# Altium schematic symbol library kmilo17pet-TI_MSP430.SchLib: 1463 symbols (part 111 of 130)
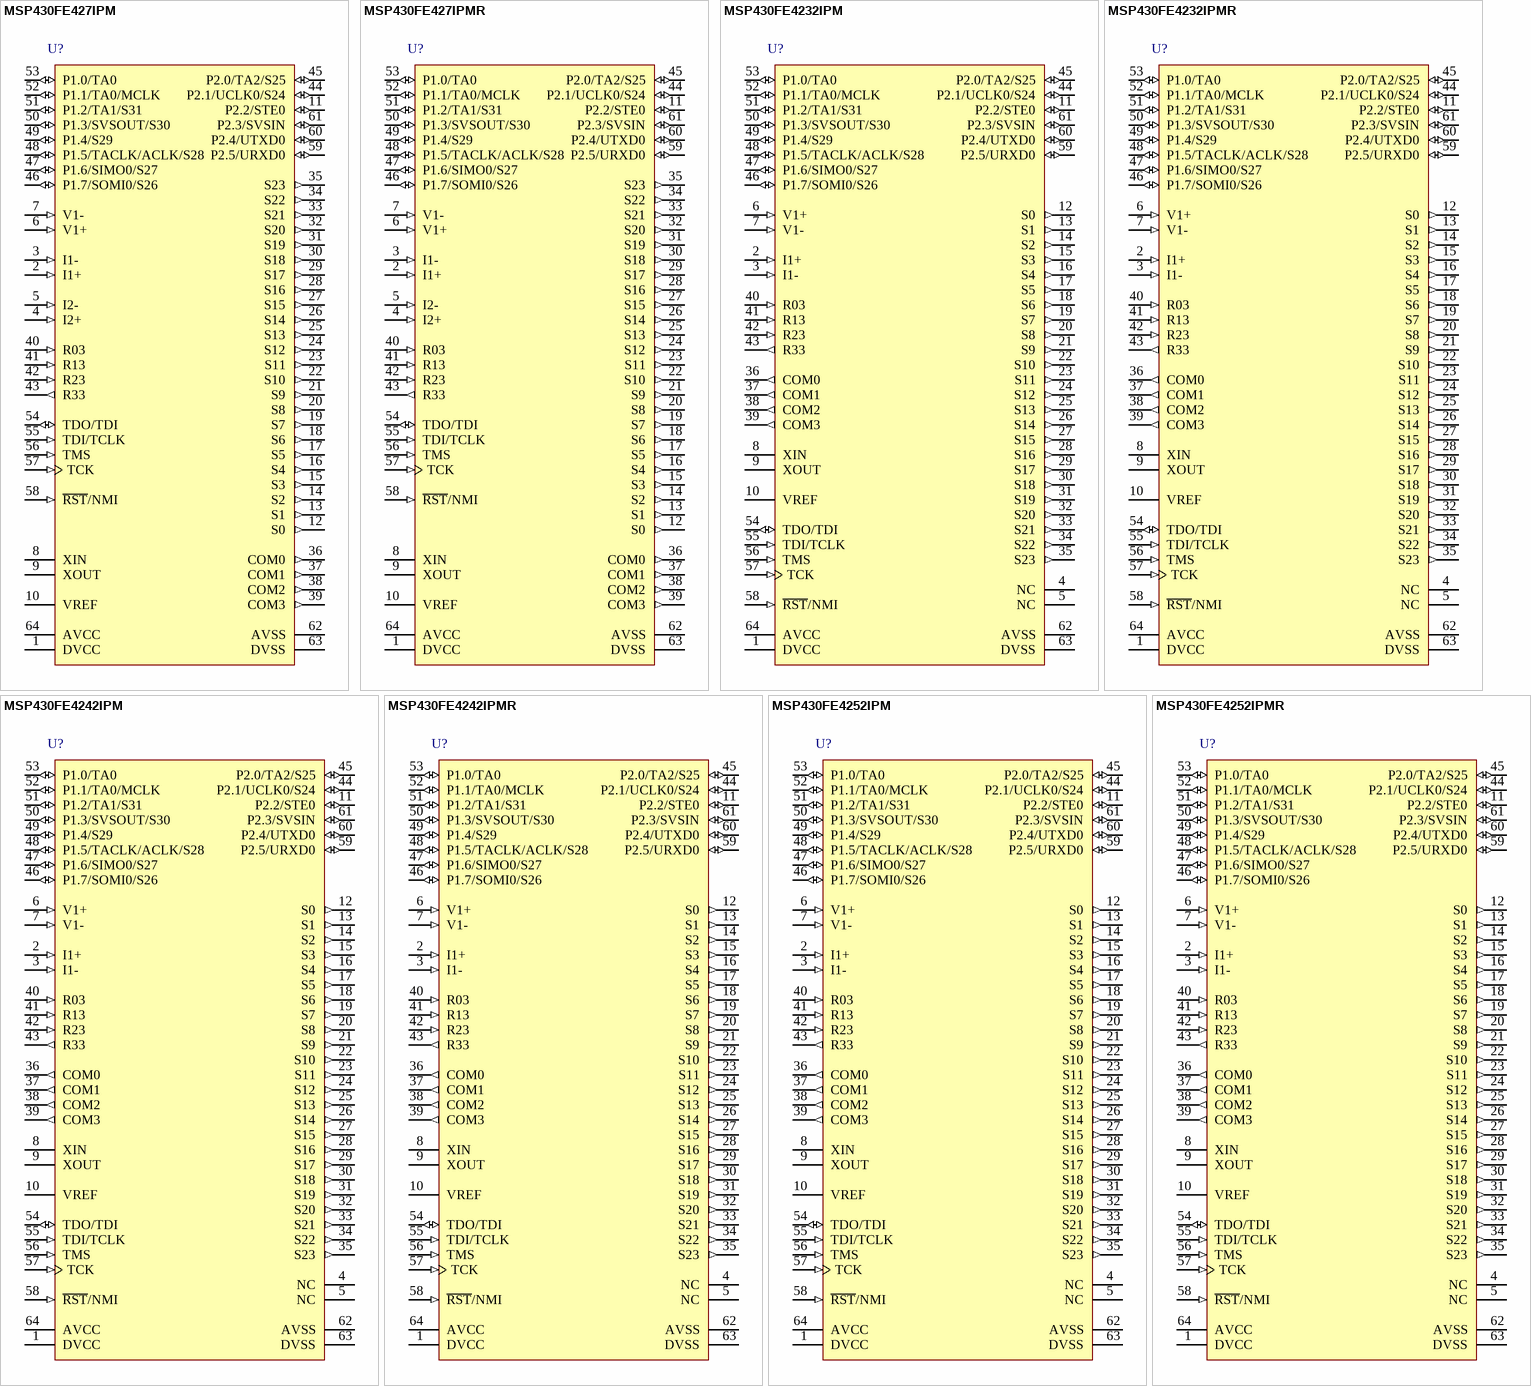
[diagram p291: symbols MSP430FE427IPM to MSP430FE4252IPMR]

## MSP430FE4242IPM
designator U?
8 MHz Mixed Signal Microcontroller with 12 KB Flash, 512 B SRAM and 14 GPIOs, -40 to 85 degC, 64-pin QFP (PM), Green (RoHS & no Sb/Br); Manufacturer: Texas Instruments; PartNumber: MSP430FE4242IPM; ADC: 16-bit Sigma Delta; Brown Out Reset: Yes; Flash(KB): 12; Frequency(MHz): 8; GPIO: 14; LCD Segments: 128; SRAM(B): 512; SubFamily: 4 Series with LCD; Timers - 16-bit: 1; DatasheetVersion: SLAS616; PackageVersion: 4040152/C; PackageReference: PM64; PackageDescription: 64-Pin Plastic Quad Flat Pack, Body 10 x 10 mm, Pitch 0.5 mm; Supplier 1: Digi-Key; Supplier Part Number 1: MSP430FE423IPMR-ND; Supplier 2: Newark; Supplier Part Number 2: 10J9439; Supplier 3: Mouser; Supplier Part Number 3: 595-430FE423IPMR; Eco-Plan: Green (RoHS & no Sb/Br); SVS: Yes; Temp Sensor: Yes; USART: 1; Mounting Technology: Surface Mount; Code_JEDEC: MS-026; ComponentLink1Description: Manufacturer URL; ComponentLink1URL: http://www.ti.com/; ComponentLink2Description: Datasheet; ComponentLink2URL: http://www.ti.com/general/docs/lit/getliterature.tsp?genericPartNumber=MSP430FE4242&fileType=pdf; ComponentLink3Description: Package Specification; ComponentLink3URL: http://www.ti.com/lit/ml/mtqf008a/mtqf008a.pdf
footprint TI-PM64_N (QFP, 64-Leads, Body 10x10mm, Pitch 0.5mm, IPC Medium Density)
pins: 1 DVCC (power) "Digital supply voltage, positive terminal.", 2 I1+ (in) "Current 1 positive analog input. Internal connection to SD16 Channel 0 A0+.", 3 I1- (in) "Current 1 negative analog input. Internal connection to SD16 Channel 0 A0-.", 4 NC "Not connected. Connection to analog ground (AVSS) recommended.", 5 NC "Not connected. Connection to analog ground (AVSS) recommended.", 6 V1+ (in) "Voltage 1 positive analog input. Internal connection to SD16 Channel 1 A0+.", 7 V1- (in) "Voltage 1 negative analog input. Internal connection to SD16 Channel 1 A0-.", 8 XIN "Input port for crystal oscillator XT1. Standard or watch crystals can be connected.", 9 XOUT "Output terminal of crystal oscillator XT1", 10 VREF "Input for an external reference voltage / internal reference voltage output (can be used as mid-voltage)", 11 P2.2/STE0 (io), 12 S0 (out) "LCD segment output 0", 13 S1 (out) "LCD segment output 1", 14 S2 (out) "LCD segment output 2", 15 S3 (out) "LCD segment output 3", 16 S4 (out) "LCD segment output 4", 17 S5 (out) "LCD segment output 5", 18 S6 (out) "LCD segment output 6", 19 S7 (out) "LCD segment output 7", 20 S8 (out) "LCD segment output 8", 21 S9 (out) "LCD segment output 9", 22 S10 (out) "LCD segment output 10", 23 S11 (out) "LCD segment output 11", 24 S12 (out) "LCD segment output 12", 25 S13 (out) "LCD segment output 13", 26 S14 (out) "LCD segment output 14", 27 S15 (out) "LCD segment output 15", 28 S16 (out) "LCD segment output 16", 29 S17 (out) "LCD segment output 17", 30 S18 (out) "LCD segment output 18", 31 S19 (out) "LCD segment output 19", 32 S20 (out) "LCD segment output 20", 33 S21 (out) "LCD segment output 21", 34 S22 (out) "LCD segment output 22", 35 S23 (out) "LCD segment output 23", 36 COM0 (out) "Common output, COM0-3 are used for LCD backplanes.", 37 COM1 (out) "Common output, COM0-3 are used for LCD backplanes.", 38 COM2 (out) "Common output, COM0-3 are used for LCD backplanes.", 39 COM3 (out) "Common output, COM0-3 are used for LCD backplanes.", 40 R03 (in) "Input port of fourth positive (lowest) analog LCD level (V5)", 41 R13 (in) "Input port of third most positive analog LCD level (V4 or V3)", 42 R23 (in) "Input port of second most positive analog LCD level (V2)", 43 R33 (out) "Output port of most positive analog LCD level (V1)", 44 P2.1/UCLK0/S24 (io), 45 P2.0/TA2/S25 (io), 46 P1.7/SOMI0/S26 (io), 47 P1.6/SIMO0/S27 (io), 48 P1.5/TACLK/ACLK/S28 (io), 49 P1.4/S29 (io), 50 P1.3/SVSOUT/S30 (io), 51 P1.2/TA1/S31 (io), 52 P1.1/TA0/MCLK (io), 53 P1.0/TA0 (io), 54 TDO/TDI (io), 55 TDI/TCLK (in), 56 TMS (in) "Test mode select. TMS is used as an input port for device programming and test.", 57 TCK (in) "Test clock. TCK is the clock input port for device programming and test.", 58 ~{RST}/NMI (in), 59 P2.5/URXD0 (io), 60 P2.4/UTXD0 (io), 61 P2.3/SVSIN (io), 62 AVSS (power) "Analog supply voltage, negative terminal. Supplies SD16, SVS, brownout, oscillator, and LCD resistive divider circuitry.", 63 DVSS (power) "Digital supply voltage, negative terminal", 64 AVCC (power) "Analog supply voltage, positive terminal. Supplies SD16, SVS, brownout, oscillator, and LCD resistive divider circuitry; must not power up prior to DVCC."

## MSP430FE4242IPMR
designator U?
8 MHz Mixed Signal Microcontroller with 12 KB Flash, 512 B SRAM and 14 GPIOs, -40 to 85 degC, 64-pin QFP (PM), Green (RoHS & no Sb/Br); Manufacturer: Texas Instruments; PartNumber: MSP430FE4242IPMR; ADC: 16-bit Sigma Delta; Brown Out Reset: Yes; Flash(KB): 12; Frequency(MHz): 8; GPIO: 14; LCD Segments: 128; SRAM(B): 512; SubFamily: 4 Series with LCD; Timers - 16-bit: 1; DatasheetVersion: SLAS616; PackageVersion: 4040152/C; PackageReference: PM64; PackageDescription: 64-Pin Plastic Quad Flat Pack, Body 10 x 10 mm, Pitch 0.5 mm; Supplier 1: Digi-Key; Supplier Part Number 1: MSP430FE4242IPM-ND; Supplier 2: Mouser; Supplier Part Number 2: 595-MSP430FE4242IPM; Eco-Plan: Green (RoHS & no Sb/Br); SVS: Yes; Temp Sensor: Yes; USART: 1; Mounting Technology: Surface Mount; Code_JEDEC: MS-026; ComponentLink1Description: Manufacturer URL; ComponentLink1URL: http://www.ti.com/; ComponentLink2Description: Datasheet; ComponentLink2URL: http://www.ti.com/general/docs/lit/getliterature.tsp?genericPartNumber=MSP430FE4242&fileType=pdf; ComponentLink3Description: Package Specification; ComponentLink3URL: http://www.ti.com/lit/ml/mtqf008a/mtqf008a.pdf
footprint TI-PM64_N (QFP, 64-Leads, Body 10x10mm, Pitch 0.5mm, IPC Medium Density)
pins: 1 DVCC (power) "Digital supply voltage, positive terminal.", 2 I1+ (in) "Current 1 positive analog input. Internal connection to SD16 Channel 0 A0+.", 3 I1- (in) "Current 1 negative analog input. Internal connection to SD16 Channel 0 A0-.", 4 NC "Not connected. Connection to analog ground (AVSS) recommended.", 5 NC "Not connected. Connection to analog ground (AVSS) recommended.", 6 V1+ (in) "Voltage 1 positive analog input. Internal connection to SD16 Channel 1 A0+.", 7 V1- (in) "Voltage 1 negative analog input. Internal connection to SD16 Channel 1 A0-.", 8 XIN "Input port for crystal oscillator XT1. Standard or watch crystals can be connected.", 9 XOUT "Output terminal of crystal oscillator XT1", 10 VREF "Input for an external reference voltage / internal reference voltage output (can be used as mid-voltage)", 11 P2.2/STE0 (io), 12 S0 (out) "LCD segment output 0", 13 S1 (out) "LCD segment output 1", 14 S2 (out) "LCD segment output 2", 15 S3 (out) "LCD segment output 3", 16 S4 (out) "LCD segment output 4", 17 S5 (out) "LCD segment output 5", 18 S6 (out) "LCD segment output 6", 19 S7 (out) "LCD segment output 7", 20 S8 (out) "LCD segment output 8", 21 S9 (out) "LCD segment output 9", 22 S10 (out) "LCD segment output 10", 23 S11 (out) "LCD segment output 11", 24 S12 (out) "LCD segment output 12", 25 S13 (out) "LCD segment output 13", 26 S14 (out) "LCD segment output 14", 27 S15 (out) "LCD segment output 15", 28 S16 (out) "LCD segment output 16", 29 S17 (out) "LCD segment output 17", 30 S18 (out) "LCD segment output 18", 31 S19 (out) "LCD segment output 19", 32 S20 (out) "LCD segment output 20", 33 S21 (out) "LCD segment output 21", 34 S22 (out) "LCD segment output 22", 35 S23 (out) "LCD segment output 23", 36 COM0 (out) "Common output, COM0-3 are used for LCD backplanes.", 37 COM1 (out) "Common output, COM0-3 are used for LCD backplanes.", 38 COM2 (out) "Common output, COM0-3 are used for LCD backplanes.", 39 COM3 (out) "Common output, COM0-3 are used for LCD backplanes.", 40 R03 (in) "Input port of fourth positive (lowest) analog LCD level (V5)", 41 R13 (in) "Input port of third most positive analog LCD level (V4 or V3)", 42 R23 (in) "Input port of second most positive analog LCD level (V2)", 43 R33 (out) "Output port of most positive analog LCD level (V1)", 44 P2.1/UCLK0/S24 (io), 45 P2.0/TA2/S25 (io), 46 P1.7/SOMI0/S26 (io), 47 P1.6/SIMO0/S27 (io), 48 P1.5/TACLK/ACLK/S28 (io), 49 P1.4/S29 (io), 50 P1.3/SVSOUT/S30 (io), 51 P1.2/TA1/S31 (io), 52 P1.1/TA0/MCLK (io), 53 P1.0/TA0 (io), 54 TDO/TDI (io), 55 TDI/TCLK (in), 56 TMS (in) "Test mode select. TMS is used as an input port for device programming and test.", 57 TCK (in) "Test clock. TCK is the clock input port for device programming and test.", 58 ~{RST}/NMI (in), 59 P2.5/URXD0 (io), 60 P2.4/UTXD0 (io), 61 P2.3/SVSIN (io), 62 AVSS (power) "Analog supply voltage, negative terminal. Supplies SD16, SVS, brownout, oscillator, and LCD resistive divider circuitry.", 63 DVSS (power) "Digital supply voltage, negative terminal", 64 AVCC (power) "Analog supply voltage, positive terminal. Supplies SD16, SVS, brownout, oscillator, and LCD resistive divider circuitry; must not power up prior to DVCC."

## MSP430FE4252IPM
designator U?
8 MHz Mixed Signal Microcontroller with 16 KB Flash, 512 B SRAM and 14 GPIOs, -40 to 85 degC, 64-pin QFP (PM), Green (RoHS & no Sb/Br); Manufacturer: Texas Instruments; PartNumber: MSP430FE4252IPM; ADC: 16-bit Sigma Delta; Brown Out Reset: Yes; Flash(KB): 16; Frequency(MHz): 8; GPIO: 14; LCD Segments: 128; SRAM(B): 512; SubFamily: 4 Series with LCD; Timers - 16-bit: 1; DatasheetVersion: SLAS616; PackageVersion: 4040152/C; PackageReference: PM64; PackageDescription: 64-Pin Plastic Quad Flat Pack, Body 10 x 10 mm, Pitch 0.5 mm; Supplier 1: Digi-Key; Supplier Part Number 1: 296-23731-2-ND; Supplier 2: Digi-Key; Supplier Part Number 2: 296-23731-1-ND; Supplier 3: Digi-Key; Supplier Part Number 3: 296-23731-6-ND; Supplier 4: Mouser; Supplier Part Number 4: 595-MSP430FE4242IPMR; Eco-Plan: Green (RoHS & no Sb/Br); SVS: Yes; Temp Sensor: Yes; USART: 1; Mounting Technology: Surface Mount; Code_JEDEC: MS-026; ComponentLink1Description: Manufacturer URL; ComponentLink1URL: http://www.ti.com/; ComponentLink2Description: Datasheet; ComponentLink2URL: http://www.ti.com/general/docs/lit/getliterature.tsp?genericPartNumber=MSP430FE4252&fileType=pdf; ComponentLink3Description: Package Specification; ComponentLink3URL: http://www.ti.com/lit/ml/mtqf008a/mtqf008a.pdf
footprint TI-PM64_N (QFP, 64-Leads, Body 10x10mm, Pitch 0.5mm, IPC Medium Density)
pins: 1 DVCC (power) "Digital supply voltage, positive terminal.", 2 I1+ (in) "Current 1 positive analog input. Internal connection to SD16 Channel 0 A0+.", 3 I1- (in) "Current 1 negative analog input. Internal connection to SD16 Channel 0 A0-.", 4 NC "Not connected. Connection to analog ground (AVSS) recommended.", 5 NC "Not connected. Connection to analog ground (AVSS) recommended.", 6 V1+ (in) "Voltage 1 positive analog input. Internal connection to SD16 Channel 1 A0+.", 7 V1- (in) "Voltage 1 negative analog input. Internal connection to SD16 Channel 1 A0-.", 8 XIN "Input port for crystal oscillator XT1. Standard or watch crystals can be connected.", 9 XOUT "Output terminal of crystal oscillator XT1", 10 VREF "Input for an external reference voltage / internal reference voltage output (can be used as mid-voltage)", 11 P2.2/STE0 (io), 12 S0 (out) "LCD segment output 0", 13 S1 (out) "LCD segment output 1", 14 S2 (out) "LCD segment output 2", 15 S3 (out) "LCD segment output 3", 16 S4 (out) "LCD segment output 4", 17 S5 (out) "LCD segment output 5", 18 S6 (out) "LCD segment output 6", 19 S7 (out) "LCD segment output 7", 20 S8 (out) "LCD segment output 8", 21 S9 (out) "LCD segment output 9", 22 S10 (out) "LCD segment output 10", 23 S11 (out) "LCD segment output 11", 24 S12 (out) "LCD segment output 12", 25 S13 (out) "LCD segment output 13", 26 S14 (out) "LCD segment output 14", 27 S15 (out) "LCD segment output 15", 28 S16 (out) "LCD segment output 16", 29 S17 (out) "LCD segment output 17", 30 S18 (out) "LCD segment output 18", 31 S19 (out) "LCD segment output 19", 32 S20 (out) "LCD segment output 20", 33 S21 (out) "LCD segment output 21", 34 S22 (out) "LCD segment output 22", 35 S23 (out) "LCD segment output 23", 36 COM0 (out) "Common output, COM0-3 are used for LCD backplanes.", 37 COM1 (out) "Common output, COM0-3 are used for LCD backplanes.", 38 COM2 (out) "Common output, COM0-3 are used for LCD backplanes.", 39 COM3 (out) "Common output, COM0-3 are used for LCD backplanes.", 40 R03 (in) "Input port of fourth positive (lowest) analog LCD level (V5)", 41 R13 (in) "Input port of third most positive analog LCD level (V4 or V3)", 42 R23 (in) "Input port of second most positive analog LCD level (V2)", 43 R33 (out) "Output port of most positive analog LCD level (V1)", 44 P2.1/UCLK0/S24 (io), 45 P2.0/TA2/S25 (io), 46 P1.7/SOMI0/S26 (io), 47 P1.6/SIMO0/S27 (io), 48 P1.5/TACLK/ACLK/S28 (io), 49 P1.4/S29 (io), 50 P1.3/SVSOUT/S30 (io), 51 P1.2/TA1/S31 (io), 52 P1.1/TA0/MCLK (io), 53 P1.0/TA0 (io), 54 TDO/TDI (io), 55 TDI/TCLK (in), 56 TMS (in) "Test mode select. TMS is used as an input port for device programming and test.", 57 TCK (in) "Test clock. TCK is the clock input port for device programming and test.", 58 ~{RST}/NMI (in), 59 P2.5/URXD0 (io), 60 P2.4/UTXD0 (io), 61 P2.3/SVSIN (io), 62 AVSS (power) "Analog supply voltage, negative terminal. Supplies SD16, SVS, brownout, oscillator, and LCD resistive divider circuitry.", 63 DVSS (power) "Digital supply voltage, negative terminal", 64 AVCC (power) "Analog supply voltage, positive terminal. Supplies SD16, SVS, brownout, oscillator, and LCD resistive divider circuitry; must not power up prior to DVCC."

## MSP430FE4252IPMR
designator U?
8 MHz Mixed Signal Microcontroller with 16 KB Flash, 512 B SRAM and 14 GPIOs, -40 to 85 degC, 64-pin QFP (PM), Green (RoHS & no Sb/Br); Manufacturer: Texas Instruments; PartNumber: MSP430FE4252IPMR; ADC: 16-bit Sigma Delta; Brown Out Reset: Yes; Flash(KB): 16; Frequency(MHz): 8; GPIO: 14; LCD Segments: 128; SRAM(B): 512; SubFamily: 4 Series with LCD; Timers - 16-bit: 1; DatasheetVersion: SLAS616; PackageVersion: 4040152/C; PackageReference: PM64; PackageDescription: 64-Pin Plastic Quad Flat Pack, Body 10 x 10 mm, Pitch 0.5 mm; Supplier 1: Digi-Key; Supplier Part Number 1: 296-32673-ND; Supplier 2: Farnell; Supplier Part Number 2: 1903453; Supplier 3: Newark; Supplier Part Number 3: 58T4970; Supplier 4: Newark; Supplier Part Number 4: 07P9591; Supplier 5: Mouser; Supplier Part Number 5: 595-MSP430FE4252IPM; Eco-Plan: Green (RoHS & no Sb/Br); SVS: Yes; Temp Sensor: Yes; USART: 1; Mounting Technology: Surface Mount; Code_JEDEC: MS-026; ComponentLink1Description: Manufacturer URL; ComponentLink1URL: http://www.ti.com/; ComponentLink2Description: Datasheet; ComponentLink2URL: http://www.ti.com/general/docs/lit/getliterature.tsp?genericPartNumber=MSP430FE4252&fileType=pdf; ComponentLink3Description: Package Specification; ComponentLink3URL: http://www.ti.com/lit/ml/mtqf008a/mtqf008a.pdf
footprint TI-PM64_N (QFP, 64-Leads, Body 10x10mm, Pitch 0.5mm, IPC Medium Density)
pins: 1 DVCC (power) "Digital supply voltage, positive terminal.", 2 I1+ (in) "Current 1 positive analog input. Internal connection to SD16 Channel 0 A0+.", 3 I1- (in) "Current 1 negative analog input. Internal connection to SD16 Channel 0 A0-.", 4 NC "Not connected. Connection to analog ground (AVSS) recommended.", 5 NC "Not connected. Connection to analog ground (AVSS) recommended.", 6 V1+ (in) "Voltage 1 positive analog input. Internal connection to SD16 Channel 1 A0+.", 7 V1- (in) "Voltage 1 negative analog input. Internal connection to SD16 Channel 1 A0-.", 8 XIN "Input port for crystal oscillator XT1. Standard or watch crystals can be connected.", 9 XOUT "Output terminal of crystal oscillator XT1", 10 VREF "Input for an external reference voltage / internal reference voltage output (can be used as mid-voltage)", 11 P2.2/STE0 (io), 12 S0 (out) "LCD segment output 0", 13 S1 (out) "LCD segment output 1", 14 S2 (out) "LCD segment output 2", 15 S3 (out) "LCD segment output 3", 16 S4 (out) "LCD segment output 4", 17 S5 (out) "LCD segment output 5", 18 S6 (out) "LCD segment output 6", 19 S7 (out) "LCD segment output 7", 20 S8 (out) "LCD segment output 8", 21 S9 (out) "LCD segment output 9", 22 S10 (out) "LCD segment output 10", 23 S11 (out) "LCD segment output 11", 24 S12 (out) "LCD segment output 12", 25 S13 (out) "LCD segment output 13", 26 S14 (out) "LCD segment output 14", 27 S15 (out) "LCD segment output 15", 28 S16 (out) "LCD segment output 16", 29 S17 (out) "LCD segment output 17", 30 S18 (out) "LCD segment output 18", 31 S19 (out) "LCD segment output 19", 32 S20 (out) "LCD segment output 20", 33 S21 (out) "LCD segment output 21", 34 S22 (out) "LCD segment output 22", 35 S23 (out) "LCD segment output 23", 36 COM0 (out) "Common output, COM0-3 are used for LCD backplanes.", 37 COM1 (out) "Common output, COM0-3 are used for LCD backplanes.", 38 COM2 (out) "Common output, COM0-3 are used for LCD backplanes.", 39 COM3 (out) "Common output, COM0-3 are used for LCD backplanes.", 40 R03 (in) "Input port of fourth positive (lowest) analog LCD level (V5)", 41 R13 (in) "Input port of third most positive analog LCD level (V4 or V3)", 42 R23 (in) "Input port of second most positive analog LCD level (V2)", 43 R33 (out) "Output port of most positive analog LCD level (V1)", 44 P2.1/UCLK0/S24 (io), 45 P2.0/TA2/S25 (io), 46 P1.7/SOMI0/S26 (io), 47 P1.6/SIMO0/S27 (io), 48 P1.5/TACLK/ACLK/S28 (io), 49 P1.4/S29 (io), 50 P1.3/SVSOUT/S30 (io), 51 P1.2/TA1/S31 (io), 52 P1.1/TA0/MCLK (io), 53 P1.0/TA0 (io), 54 TDO/TDI (io), 55 TDI/TCLK (in), 56 TMS (in) "Test mode select. TMS is used as an input port for device programming and test.", 57 TCK (in) "Test clock. TCK is the clock input port for device programming and test.", 58 ~{RST}/NMI (in), 59 P2.5/URXD0 (io), 60 P2.4/UTXD0 (io), 61 P2.3/SVSIN (io), 62 AVSS (power) "Analog supply voltage, negative terminal. Supplies SD16, SVS, brownout, oscillator, and LCD resistive divider circuitry.", 63 DVSS (power) "Digital supply voltage, negative terminal", 64 AVCC (power) "Analog supply voltage, positive terminal. Supplies SD16, SVS, brownout, oscillator, and LCD resistive divider circuitry; must not power up prior to DVCC."

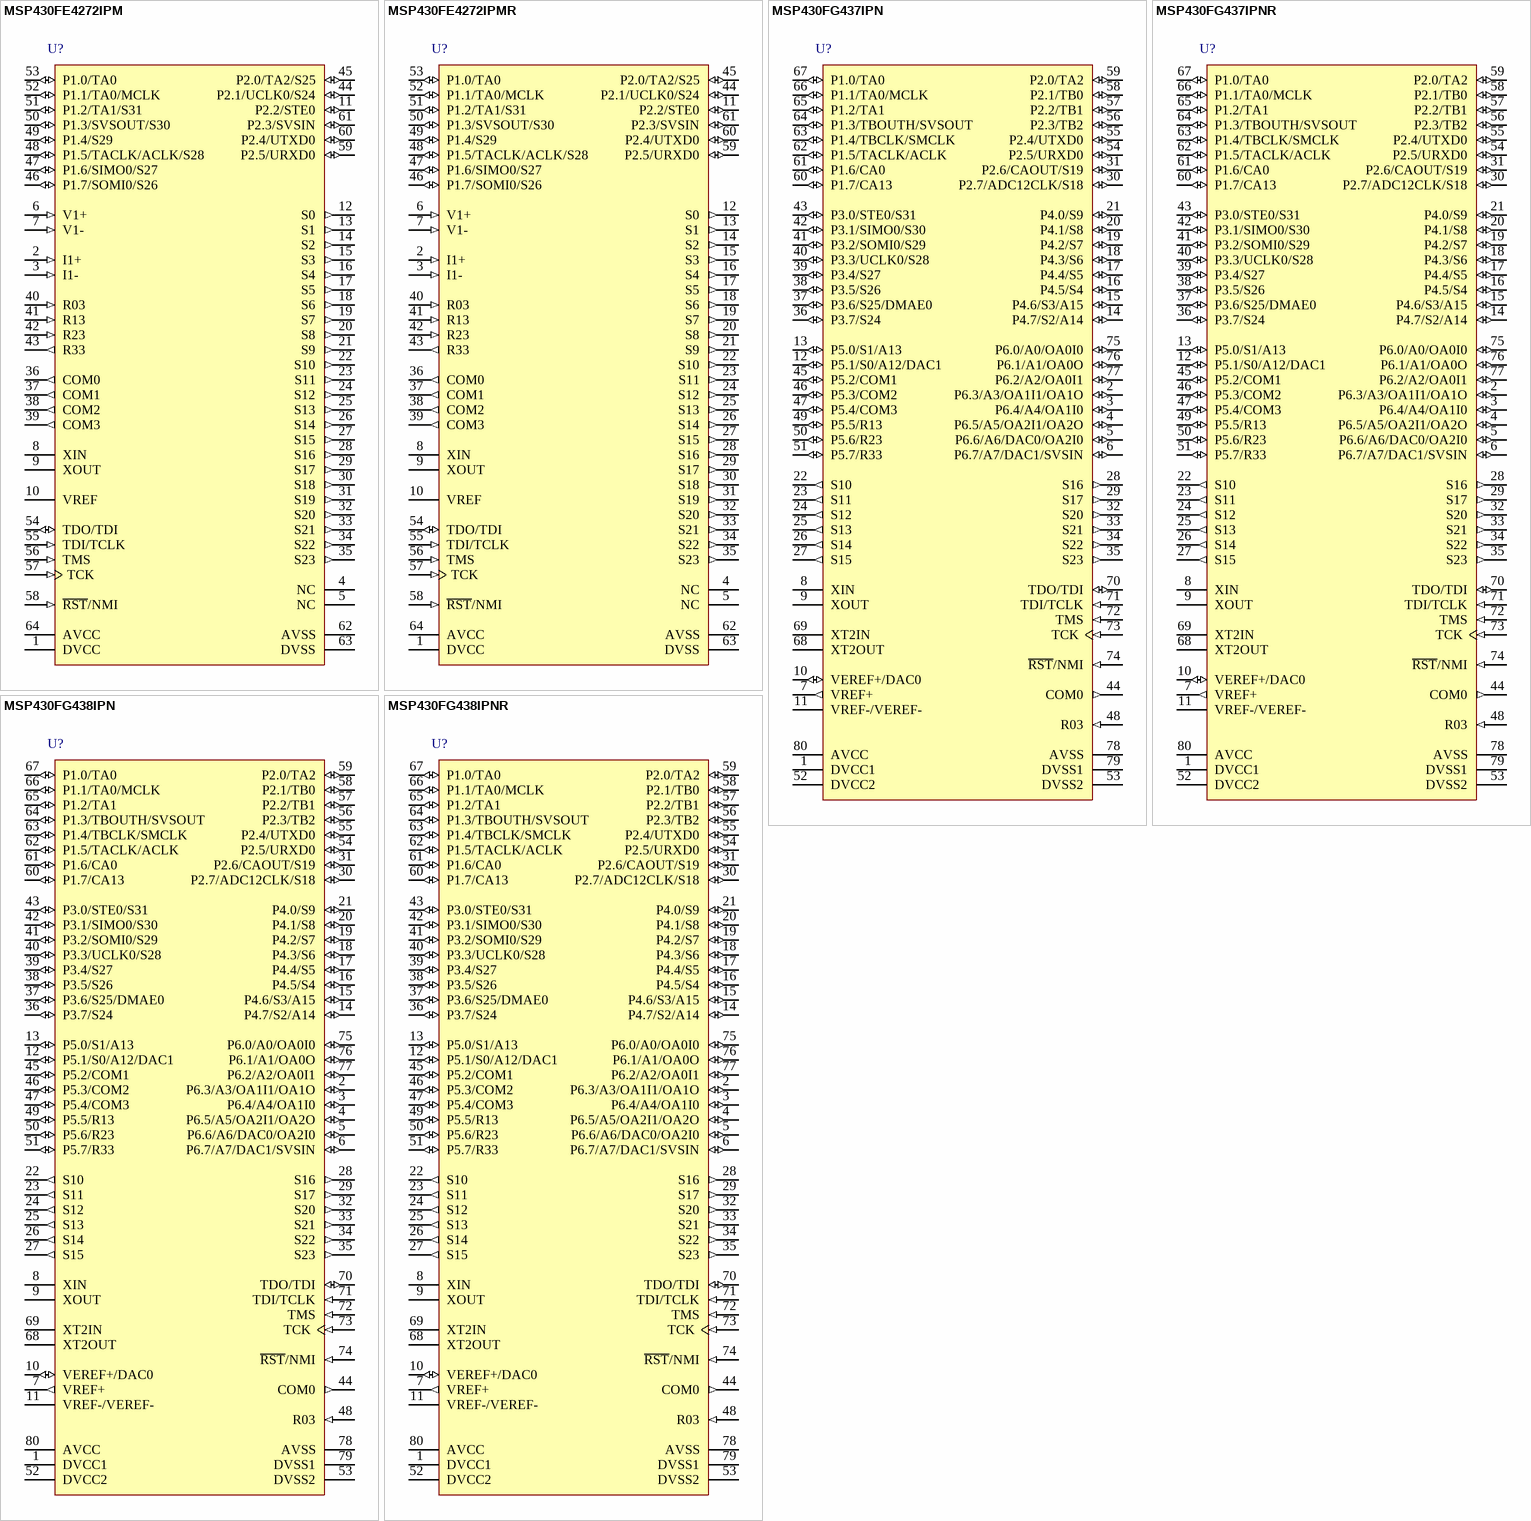
[diagram p186: symbols MSP430FE4272IPM to MSP430FG438IPNR]

## MSP430FE4272IPM
designator U?
8 MHz Mixed Signal Microcontroller with 32 KB Flash, 1024 B SRAM and 14 GPIOs, -40 to 85 degC, 64-pin QFP (PM), Green (RoHS & no Sb/Br); Manufacturer: Texas Instruments; PartNumber: MSP430FE4272IPM; ADC: 16-bit Sigma Delta; Brown Out Reset: Yes; Flash(KB): 32; Frequency(MHz): 8; GPIO: 14; LCD Segments: 128; SRAM(B): 1024; SubFamily: 4 Series with LCD; Timers - 16-bit: 1; DatasheetVersion: SLAS616; PackageVersion: 4040152/C; PackageReference: PM64; PackageDescription: 64-Pin Plastic Quad Flat Pack, Body 10 x 10 mm, Pitch 0.5 mm; Supplier 1: Digi-Key; Supplier Part Number 1: 296-26235-2-ND; Supplier 2: Digi-Key; Supplier Part Number 2: 296-26235-1-ND; Supplier 3: Digi-Key; Supplier Part Number 3: 296-26235-6-ND; Supplier 4: Newark; Supplier Part Number 4: 10J9441; Supplier 5: Mouser; Supplier Part Number 5: 595-430FE425IPMR; Eco-Plan: Green (RoHS & no Sb/Br); SVS: Yes; Temp Sensor: Yes; USART: 1; Mounting Technology: Surface Mount; Code_JEDEC: MS-026; ComponentLink1Description: Manufacturer URL; ComponentLink1URL: http://www.ti.com/; ComponentLink2Description: Datasheet; ComponentLink2URL: http://www.ti.com/general/docs/lit/getliterature.tsp?genericPartNumber=MSP430FE4272&fileType=pdf; ComponentLink3Description: Package Specification; ComponentLink3URL: http://www.ti.com/lit/ml/mtqf008a/mtqf008a.pdf
footprint TI-PM64_N (QFP, 64-Leads, Body 10x10mm, Pitch 0.5mm, IPC Medium Density)
pins: 1 DVCC (power) "Digital supply voltage, positive terminal.", 2 I1+ (in) "Current 1 positive analog input. Internal connection to SD16 Channel 0 A0+.", 3 I1- (in) "Current 1 negative analog input. Internal connection to SD16 Channel 0 A0-.", 4 NC "Not connected. Connection to analog ground (AVSS) recommended.", 5 NC "Not connected. Connection to analog ground (AVSS) recommended.", 6 V1+ (in) "Voltage 1 positive analog input. Internal connection to SD16 Channel 1 A0+.", 7 V1- (in) "Voltage 1 negative analog input. Internal connection to SD16 Channel 1 A0-.", 8 XIN "Input port for crystal oscillator XT1. Standard or watch crystals can be connected.", 9 XOUT "Output terminal of crystal oscillator XT1", 10 VREF "Input for an external reference voltage / internal reference voltage output (can be used as mid-voltage)", 11 P2.2/STE0 (io), 12 S0 (out) "LCD segment output 0", 13 S1 (out) "LCD segment output 1", 14 S2 (out) "LCD segment output 2", 15 S3 (out) "LCD segment output 3", 16 S4 (out) "LCD segment output 4", 17 S5 (out) "LCD segment output 5", 18 S6 (out) "LCD segment output 6", 19 S7 (out) "LCD segment output 7", 20 S8 (out) "LCD segment output 8", 21 S9 (out) "LCD segment output 9", 22 S10 (out) "LCD segment output 10", 23 S11 (out) "LCD segment output 11", 24 S12 (out) "LCD segment output 12", 25 S13 (out) "LCD segment output 13", 26 S14 (out) "LCD segment output 14", 27 S15 (out) "LCD segment output 15", 28 S16 (out) "LCD segment output 16", 29 S17 (out) "LCD segment output 17", 30 S18 (out) "LCD segment output 18", 31 S19 (out) "LCD segment output 19", 32 S20 (out) "LCD segment output 20", 33 S21 (out) "LCD segment output 21", 34 S22 (out) "LCD segment output 22", 35 S23 (out) "LCD segment output 23", 36 COM0 (out) "Common output, COM0-3 are used for LCD backplanes.", 37 COM1 (out) "Common output, COM0-3 are used for LCD backplanes.", 38 COM2 (out) "Common output, COM0-3 are used for LCD backplanes.", 39 COM3 (out) "Common output, COM0-3 are used for LCD backplanes.", 40 R03 (in) "Input port of fourth positive (lowest) analog LCD level (V5)", 41 R13 (in) "Input port of third most positive analog LCD level (V4 or V3)", 42 R23 (in) "Input port of second most positive analog LCD level (V2)", 43 R33 (out) "Output port of most positive analog LCD level (V1)", 44 P2.1/UCLK0/S24 (io), 45 P2.0/TA2/S25 (io), 46 P1.7/SOMI0/S26 (io), 47 P1.6/SIMO0/S27 (io), 48 P1.5/TACLK/ACLK/S28 (io), 49 P1.4/S29 (io), 50 P1.3/SVSOUT/S30 (io), 51 P1.2/TA1/S31 (io), 52 P1.1/TA0/MCLK (io), 53 P1.0/TA0 (io), 54 TDO/TDI (io), 55 TDI/TCLK (in), 56 TMS (in) "Test mode select. TMS is used as an input port for device programming and test.", 57 TCK (in) "Test clock. TCK is the clock input port for device programming and test.", 58 ~{RST}/NMI (in), 59 P2.5/URXD0 (io), 60 P2.4/UTXD0 (io), 61 P2.3/SVSIN (io), 62 AVSS (power) "Analog supply voltage, negative terminal. Supplies SD16, SVS, brownout, oscillator, and LCD resistive divider circuitry.", 63 DVSS (power) "Digital supply voltage, negative terminal", 64 AVCC (power) "Analog supply voltage, positive terminal. Supplies SD16, SVS, brownout, oscillator, and LCD resistive divider circuitry; must not power up prior to DVCC."

## MSP430FE4272IPMR
designator U?
8 MHz Mixed Signal Microcontroller with 32 KB Flash, 1024 B SRAM and 14 GPIOs, -40 to 85 degC, 64-pin QFP (PM), Green (RoHS & no Sb/Br); Manufacturer: Texas Instruments; PartNumber: MSP430FE4272IPMR; ADC: 16-bit Sigma Delta; Brown Out Reset: Yes; Flash(KB): 32; Frequency(MHz): 8; GPIO: 14; LCD Segments: 128; SRAM(B): 1024; SubFamily: 4 Series with LCD; Timers - 16-bit: 1; DatasheetVersion: SLAS616; PackageVersion: 4040152/C; PackageReference: PM64; PackageDescription: 64-Pin Plastic Quad Flat Pack, Body 10 x 10 mm, Pitch 0.5 mm; Supplier 1: Digi-Key; Supplier Part Number 1: 296-32675-ND; Supplier 2: Newark; Supplier Part Number 2: 07P9593; Supplier 3: Mouser; Supplier Part Number 3: 595-MSP430FE4272IPM; Eco-Plan: Green (RoHS & no Sb/Br); SVS: Yes; Temp Sensor: Yes; USART: 1; Mounting Technology: Surface Mount; Code_JEDEC: MS-026; ComponentLink1Description: Manufacturer URL; ComponentLink1URL: http://www.ti.com/; ComponentLink2Description: Datasheet; ComponentLink2URL: http://www.ti.com/general/docs/lit/getliterature.tsp?genericPartNumber=MSP430FE4272&fileType=pdf; ComponentLink3Description: Package Specification; ComponentLink3URL: http://www.ti.com/lit/ml/mtqf008a/mtqf008a.pdf
footprint TI-PM64_N (QFP, 64-Leads, Body 10x10mm, Pitch 0.5mm, IPC Medium Density)
pins: 1 DVCC (power) "Digital supply voltage, positive terminal.", 2 I1+ (in) "Current 1 positive analog input. Internal connection to SD16 Channel 0 A0+.", 3 I1- (in) "Current 1 negative analog input. Internal connection to SD16 Channel 0 A0-.", 4 NC "Not connected. Connection to analog ground (AVSS) recommended.", 5 NC "Not connected. Connection to analog ground (AVSS) recommended.", 6 V1+ (in) "Voltage 1 positive analog input. Internal connection to SD16 Channel 1 A0+.", 7 V1- (in) "Voltage 1 negative analog input. Internal connection to SD16 Channel 1 A0-.", 8 XIN "Input port for crystal oscillator XT1. Standard or watch crystals can be connected.", 9 XOUT "Output terminal of crystal oscillator XT1", 10 VREF "Input for an external reference voltage / internal reference voltage output (can be used as mid-voltage)", 11 P2.2/STE0 (io), 12 S0 (out) "LCD segment output 0", 13 S1 (out) "LCD segment output 1", 14 S2 (out) "LCD segment output 2", 15 S3 (out) "LCD segment output 3", 16 S4 (out) "LCD segment output 4", 17 S5 (out) "LCD segment output 5", 18 S6 (out) "LCD segment output 6", 19 S7 (out) "LCD segment output 7", 20 S8 (out) "LCD segment output 8", 21 S9 (out) "LCD segment output 9", 22 S10 (out) "LCD segment output 10", 23 S11 (out) "LCD segment output 11", 24 S12 (out) "LCD segment output 12", 25 S13 (out) "LCD segment output 13", 26 S14 (out) "LCD segment output 14", 27 S15 (out) "LCD segment output 15", 28 S16 (out) "LCD segment output 16", 29 S17 (out) "LCD segment output 17", 30 S18 (out) "LCD segment output 18", 31 S19 (out) "LCD segment output 19", 32 S20 (out) "LCD segment output 20", 33 S21 (out) "LCD segment output 21", 34 S22 (out) "LCD segment output 22", 35 S23 (out) "LCD segment output 23", 36 COM0 (out) "Common output, COM0-3 are used for LCD backplanes.", 37 COM1 (out) "Common output, COM0-3 are used for LCD backplanes.", 38 COM2 (out) "Common output, COM0-3 are used for LCD backplanes.", 39 COM3 (out) "Common output, COM0-3 are used for LCD backplanes.", 40 R03 (in) "Input port of fourth positive (lowest) analog LCD level (V5)", 41 R13 (in) "Input port of third most positive analog LCD level (V4 or V3)", 42 R23 (in) "Input port of second most positive analog LCD level (V2)", 43 R33 (out) "Output port of most positive analog LCD level (V1)", 44 P2.1/UCLK0/S24 (io), 45 P2.0/TA2/S25 (io), 46 P1.7/SOMI0/S26 (io), 47 P1.6/SIMO0/S27 (io), 48 P1.5/TACLK/ACLK/S28 (io), 49 P1.4/S29 (io), 50 P1.3/SVSOUT/S30 (io), 51 P1.2/TA1/S31 (io), 52 P1.1/TA0/MCLK (io), 53 P1.0/TA0 (io), 54 TDO/TDI (io), 55 TDI/TCLK (in), 56 TMS (in) "Test mode select. TMS is used as an input port for device programming and test.", 57 TCK (in) "Test clock. TCK is the clock input port for device programming and test.", 58 ~{RST}/NMI (in), 59 P2.5/URXD0 (io), 60 P2.4/UTXD0 (io), 61 P2.3/SVSIN (io), 62 AVSS (power) "Analog supply voltage, negative terminal. Supplies SD16, SVS, brownout, oscillator, and LCD resistive divider circuitry.", 63 DVSS (power) "Digital supply voltage, negative terminal", 64 AVCC (power) "Analog supply voltage, positive terminal. Supplies SD16, SVS, brownout, oscillator, and LCD resistive divider circuitry; must not power up prior to DVCC."

## MSP430FG437IPN
designator U?
8 MHz Mixed Signal Microcontroller with 32 KB Flash, 1024 B SRAM and 48 GPIOs, -40 to 85 degC, 80-pin QFP (PN), Green (RoHS & no Sb/Br); Manufacturer: Texas Instruments; PartNumber: MSP430FG437IPN; ADC: 12-bit SAR; Brown Out Reset: Yes; DAC: 2; DMA: 3; Flash(KB): 32; Frequency(MHz): 8; GPIO: 48; LCD Segments: 128; SRAM(B): 1024; SubFamily: 4 Series with LCD; USART: 1; DatasheetVersion: SLAS380C; PackageReference: PN80; PackageDescription: 80-Pin Plastic Quad Flat Pack, Body 12 x 12 mm, Pitch 0.5 mm; Supplier 1: Digi-Key; Supplier Part Number 1: 296-22061-2-ND; Supplier 2: Digi-Key; Supplier Part Number 2: 296-22061-1-ND; Supplier 3: Newark; Supplier Part Number 3: 54M7252; Supplier 4: Mouser; Supplier Part Number 4: 595-430FG4270IRGZT; Comparators: Yes; Eco-Plan: Green (RoHS & no Sb/Br); SVS: Yes; Temp Sensor: Yes; Timers - 16-bit: 2; Watchdog: Yes; Mounting Technology: Surface Mount; Code_JEDEC: MS-018; ComponentLink1Description: Manufacturer URL; ComponentLink1URL: http://www.ti.com/; ComponentLink2Description: Datasheet; ComponentLink2URL: http://www.ti.com/general/docs/lit/getliterature.tsp?genericPartNumber=MSP430FG437&fileType=pdf; ComponentLink3Description: Package Specification; ComponentLink3URL: http://www.ti.com/lit/ml/mtqf010a/mtqf010a.pdf
footprint TI-PN80_N (QFP, 80-Leads, Body 12x12mm, Pitch 0.5mm, IPC Medium Density)
pins: 1 DVCC1 (power) "Digital supply voltage, positive terminal.", 2 P6.3/A3/OA1I1/OA1O (io), 3 P6.4/A4/OA1I0 (io), 4 P6.5/A5/OA2I1/OA2O (io), 5 P6.6/A6/DAC0/OA2I0 (io), 6 P6.7/A7/DAC1/SVSIN (io), 7 VREF+ (out) "Positive output terminal of the reference voltage in the ADC", 8 XIN "Input terminal of crystal oscillator XT1", 9 XOUT "Output terminal of crystal oscillator XT1", 10 VEREF+/DAC0 (io), 11 VREF-/VEREF-, 12 P5.1/S0/A12/DAC1 (io), 13 P5.0/S1/A13 (io), 14 P4.7/S2/A14 (io), 15 P4.6/S3/A15 (io), 16 P4.5/S4 (io), 17 P4.4/S5 (io), 18 P4.3/S6 (io), 19 P4.2/S7 (io), 20 P4.1/S8 (io), 21 P4.0/S9 (io), 22 S10 (out) "LCD segment output 10", 23 S11 (out) "LCD segment output 11", 24 S12 (out) "LCD segment output 12", 25 S13 (out) "LCD segment output 13", 26 S14 (out) "LCD segment output 14", 27 S15 (out) "LCD segment output 15", 28 S16 (out) "LCD segment output 16", 29 S17 (out) "LCD segment output 17", 30 P2.7/ADC12CLK/S18 (io), 31 P2.6/CAOUT/S19 (io), 32 S20 (out) "LCD segment output 20", 33 S21 (out) "LCD segment output 21", 34 S22 (out) "LCD segment output 22", 35 S23 (out) "LCD segment output 23", 36 P3.7/S24 (io), 37 P3.6/S25/DMAE0 (io), 38 P3.5/S26 (io), 39 P3.4/S27 (io), 40 P3.3/UCLK0/S28 (io), 41 P3.2/SOMI0/S29 (io), 42 P3.1/SIMO0/S30 (io), 43 P3.0/STE0/S31 (io), 44 COM0 (out) "Common output, COM0-3 are used for LCD backplanes.", 45 P5.2/COM1 (io), 46 P5.3/COM2 (io), 47 P5.4/COM3 (io), 48 R03 (in) "Input port of fourth positive (lowest) analog LCD level (V5)", 49 P5.5/R13 (io), 50 P5.6/R23 (io), 51 P5.7/R33 (io), 52 DVCC2 (power) "Digital supply voltage, positive terminal.", 53 DVSS2 (power) "Digital supply voltage, negative terminal.", 54 P2.5/URXD0 (io), 55 P2.4/UTXD0 (io), 56 P2.3/TB2 (io), 57 P2.2/TB1 (io), 58 P2.1/TB0 (io), 59 P2.0/TA2 (io), 60 P1.7/CA13 (io), 61 P1.6/CA0 (io), 62 P1.5/TACLK/ACLK (io), 63 P1.4/TBCLK/SMCLK (io), 64 P1.3/TBOUTH/SVSOUT (io), 65 P1.2/TA1 (io), 66 P1.1/TA0/MCLK (io), 67 P1.0/TA0 (io), 68 XT2OUT "Output terminal of crystal oscillator XT2", 69 XT2IN "Input port for crystal oscillator XT2. Only standard crystals can be connected.", 70 TDO/TDI (io), 71 TDI/TCLK (in), 72 TMS (in) "Test mode select. TMS is used as an input port for device programming and test.", 73 TCK (in) "Test clock. TCK is the clock input port for device programming and test.", 74 ~{RST}/NMI (in), 75 P6.0/A0/OA0I0 (io), 76 P6.1/A1/OA0O (io), 77 P6.2/A2/OA0I1 (io), 78 AVSS (power) "Analog supply voltage, negative terminal. Supplies SVS, brownout, oscillator, comparator_A, port 1,and LCD resistive divider circuitry.", 79 DVSS1 (power) "Digital supply voltage, negative terminal", 80 AVCC (power) "Analog supply voltage, positive terminal. Supplies SVS, brownout, oscillator, comparator_A, port 1,and LCD resistive divider circuitry;must not power up prior toDVCC1/DVCC2."

## MSP430FG437IPNR
designator U?
8 MHz Mixed Signal Microcontroller with 32 KB Flash, 1024 B SRAM and 48 GPIOs, -40 to 85 degC, 80-pin QFP (PN), Green (RoHS & no Sb/Br); Manufacturer: Texas Instruments; PartNumber: MSP430FG437IPNR; ADC: 12-bit SAR; Brown Out Reset: Yes; DAC: 2; DMA: 3; Flash(KB): 32; Frequency(MHz): 8; GPIO: 48; LCD Segments: 128; SRAM(B): 1024; SubFamily: 4 Series with LCD; USART: 1; DatasheetVersion: SLAS380C; PackageReference: PN80; PackageDescription: 80-Pin Plastic Quad Flat Pack, Body 12 x 12 mm, Pitch 0.5 mm; Supplier 1: Digi-Key; Supplier Part Number 1: 296-17011-ND; Supplier 2: Farnell; Supplier Part Number 2: 1471275; Supplier 3: Newark; Supplier Part Number 3: 10J9444; Supplier 4: Mouser; Supplier Part Number 4: 595-430FG437IPN; Comparators: Yes; Eco-Plan: Green (RoHS & no Sb/Br); SVS: Yes; Temp Sensor: Yes; Timers - 16-bit: 2; Watchdog: Yes; Mounting Technology: Surface Mount; Code_JEDEC: MS-018; ComponentLink1Description: Manufacturer URL; ComponentLink1URL: http://www.ti.com/; ComponentLink2Description: Datasheet; ComponentLink2URL: http://www.ti.com/general/docs/lit/getliterature.tsp?genericPartNumber=MSP430FG437&fileType=pdf; ComponentLink3Description: Package Specification; ComponentLink3URL: http://www.ti.com/lit/ml/mtqf010a/mtqf010a.pdf
footprint TI-PN80_N (QFP, 80-Leads, Body 12x12mm, Pitch 0.5mm, IPC Medium Density)
pins: 1 DVCC1 (power) "Digital supply voltage, positive terminal.", 2 P6.3/A3/OA1I1/OA1O (io), 3 P6.4/A4/OA1I0 (io), 4 P6.5/A5/OA2I1/OA2O (io), 5 P6.6/A6/DAC0/OA2I0 (io), 6 P6.7/A7/DAC1/SVSIN (io), 7 VREF+ (out) "Positive output terminal of the reference voltage in the ADC", 8 XIN "Input terminal of crystal oscillator XT1", 9 XOUT "Output terminal of crystal oscillator XT1", 10 VEREF+/DAC0 (io), 11 VREF-/VEREF-, 12 P5.1/S0/A12/DAC1 (io), 13 P5.0/S1/A13 (io), 14 P4.7/S2/A14 (io), 15 P4.6/S3/A15 (io), 16 P4.5/S4 (io), 17 P4.4/S5 (io), 18 P4.3/S6 (io), 19 P4.2/S7 (io), 20 P4.1/S8 (io), 21 P4.0/S9 (io), 22 S10 (out) "LCD segment output 10", 23 S11 (out) "LCD segment output 11", 24 S12 (out) "LCD segment output 12", 25 S13 (out) "LCD segment output 13", 26 S14 (out) "LCD segment output 14", 27 S15 (out) "LCD segment output 15", 28 S16 (out) "LCD segment output 16", 29 S17 (out) "LCD segment output 17", 30 P2.7/ADC12CLK/S18 (io), 31 P2.6/CAOUT/S19 (io), 32 S20 (out) "LCD segment output 20", 33 S21 (out) "LCD segment output 21", 34 S22 (out) "LCD segment output 22", 35 S23 (out) "LCD segment output 23", 36 P3.7/S24 (io), 37 P3.6/S25/DMAE0 (io), 38 P3.5/S26 (io), 39 P3.4/S27 (io), 40 P3.3/UCLK0/S28 (io), 41 P3.2/SOMI0/S29 (io), 42 P3.1/SIMO0/S30 (io), 43 P3.0/STE0/S31 (io), 44 COM0 (out) "Common output, COM0-3 are used for LCD backplanes.", 45 P5.2/COM1 (io), 46 P5.3/COM2 (io), 47 P5.4/COM3 (io), 48 R03 (in) "Input port of fourth positive (lowest) analog LCD level (V5)", 49 P5.5/R13 (io), 50 P5.6/R23 (io), 51 P5.7/R33 (io), 52 DVCC2 (power) "Digital supply voltage, positive terminal.", 53 DVSS2 (power) "Digital supply voltage, negative terminal.", 54 P2.5/URXD0 (io), 55 P2.4/UTXD0 (io), 56 P2.3/TB2 (io), 57 P2.2/TB1 (io), 58 P2.1/TB0 (io), 59 P2.0/TA2 (io), 60 P1.7/CA13 (io), 61 P1.6/CA0 (io), 62 P1.5/TACLK/ACLK (io), 63 P1.4/TBCLK/SMCLK (io), 64 P1.3/TBOUTH/SVSOUT (io), 65 P1.2/TA1 (io), 66 P1.1/TA0/MCLK (io), 67 P1.0/TA0 (io), 68 XT2OUT "Output terminal of crystal oscillator XT2", 69 XT2IN "Input port for crystal oscillator XT2. Only standard crystals can be connected.", 70 TDO/TDI (io), 71 TDI/TCLK (in), 72 TMS (in) "Test mode select. TMS is used as an input port for device programming and test.", 73 TCK (in) "Test clock. TCK is the clock input port for device programming and test.", 74 ~{RST}/NMI (in), 75 P6.0/A0/OA0I0 (io), 76 P6.1/A1/OA0O (io), 77 P6.2/A2/OA0I1 (io), 78 AVSS (power) "Analog supply voltage, negative terminal. Supplies SVS, brownout, oscillator, comparator_A, port 1,and LCD resistive divider circuitry.", 79 DVSS1 (power) "Digital supply voltage, negative terminal", 80 AVCC (power) "Analog supply voltage, positive terminal. Supplies SVS, brownout, oscillator, comparator_A, port 1,and LCD resistive divider circuitry;must not power up prior toDVCC1/DVCC2."

## MSP430FG438IPN
designator U?
8 MHz Mixed Signal Microcontroller with 48 KB Flash, 2048 B SRAM and 48 GPIOs, -40 to 85 degC, 80-pin QFP (PN), Green (RoHS & no Sb/Br); Manufacturer: Texas Instruments; PartNumber: MSP430FG438IPN; ADC: 12-bit SAR; Brown Out Reset: Yes; DAC: 2; DMA: 3; Flash(KB): 48; Frequency(MHz): 8; LCD Segments: 128; SRAM(B): 2048; SubFamily: 4 Series with LCD; USART: 1; DatasheetVersion: SLAS380C; PackageReference: PN80; PackageDescription: 80-Pin Plastic Quad Flat Pack, Body 12 x 12 mm, Pitch 0.5 mm; Supplier 1: Digi-Key; Supplier Part Number 1: 296-18611-2-ND; Supplier 2: Digi-Key; Supplier Part Number 2: 296-18611-1-ND; Supplier 3: Digi-Key; Supplier Part Number 3: 296-18611-6-ND; Supplier 4: Mouser; Supplier Part Number 4: 595-430FG437IPNR; Comparators: Yes; Eco-Plan: Green (RoHS & no Sb/Br); GPIO: 48; SVS: Yes; Temp Sensor: Yes; Timers - 16-bit: 2; Watchdog: Yes; Mounting Technology: Surface Mount; Code_JEDEC: MS-018; ComponentLink1Description: Manufacturer URL; ComponentLink1URL: http://www.ti.com/; ComponentLink2Description: Datasheet; ComponentLink2URL: http://www.ti.com/general/docs/lit/getliterature.tsp?genericPartNumber=MSP430FG438&fileType=pdf; ComponentLink3Description: Package Specification; ComponentLink3URL: http://www.ti.com/lit/ml/mtqf010a/mtqf010a.pdf
footprint TI-PN80_N (QFP, 80-Leads, Body 12x12mm, Pitch 0.5mm, IPC Medium Density)
pins: 1 DVCC1 (power) "Digital supply voltage, positive terminal.", 2 P6.3/A3/OA1I1/OA1O (io), 3 P6.4/A4/OA1I0 (io), 4 P6.5/A5/OA2I1/OA2O (io), 5 P6.6/A6/DAC0/OA2I0 (io), 6 P6.7/A7/DAC1/SVSIN (io), 7 VREF+ (out) "Positive output terminal of the reference voltage in the ADC", 8 XIN "Input terminal of crystal oscillator XT1", 9 XOUT "Output terminal of crystal oscillator XT1", 10 VEREF+/DAC0 (io), 11 VREF-/VEREF-, 12 P5.1/S0/A12/DAC1 (io), 13 P5.0/S1/A13 (io), 14 P4.7/S2/A14 (io), 15 P4.6/S3/A15 (io), 16 P4.5/S4 (io), 17 P4.4/S5 (io), 18 P4.3/S6 (io), 19 P4.2/S7 (io), 20 P4.1/S8 (io), 21 P4.0/S9 (io), 22 S10 (out) "LCD segment output 10", 23 S11 (out) "LCD segment output 11", 24 S12 (out) "LCD segment output 12", 25 S13 (out) "LCD segment output 13", 26 S14 (out) "LCD segment output 14", 27 S15 (out) "LCD segment output 15", 28 S16 (out) "LCD segment output 16", 29 S17 (out) "LCD segment output 17", 30 P2.7/ADC12CLK/S18 (io), 31 P2.6/CAOUT/S19 (io), 32 S20 (out) "LCD segment output 20", 33 S21 (out) "LCD segment output 21", 34 S22 (out) "LCD segment output 22", 35 S23 (out) "LCD segment output 23", 36 P3.7/S24 (io), 37 P3.6/S25/DMAE0 (io), 38 P3.5/S26 (io), 39 P3.4/S27 (io), 40 P3.3/UCLK0/S28 (io), 41 P3.2/SOMI0/S29 (io), 42 P3.1/SIMO0/S30 (io), 43 P3.0/STE0/S31 (io), 44 COM0 (out) "Common output, COM0-3 are used for LCD backplanes.", 45 P5.2/COM1 (io), 46 P5.3/COM2 (io), 47 P5.4/COM3 (io), 48 R03 (in) "Input port of fourth positive (lowest) analog LCD level (V5)", 49 P5.5/R13 (io), 50 P5.6/R23 (io), 51 P5.7/R33 (io), 52 DVCC2 (power) "Digital supply voltage, positive terminal.", 53 DVSS2 (power) "Digital supply voltage, negative terminal.", 54 P2.5/URXD0 (io), 55 P2.4/UTXD0 (io), 56 P2.3/TB2 (io), 57 P2.2/TB1 (io), 58 P2.1/TB0 (io), 59 P2.0/TA2 (io), 60 P1.7/CA13 (io), 61 P1.6/CA0 (io), 62 P1.5/TACLK/ACLK (io), 63 P1.4/TBCLK/SMCLK (io), 64 P1.3/TBOUTH/SVSOUT (io), 65 P1.2/TA1 (io), 66 P1.1/TA0/MCLK (io), 67 P1.0/TA0 (io), 68 XT2OUT "Output terminal of crystal oscillator XT2", 69 XT2IN "Input port for crystal oscillator XT2. Only standard crystals can be connected.", 70 TDO/TDI (io), 71 TDI/TCLK (in), 72 TMS (in) "Test mode select. TMS is used as an input port for device programming and test.", 73 TCK (in) "Test clock. TCK is the clock input port for device programming and test.", 74 ~{RST}/NMI (in), 75 P6.0/A0/OA0I0 (io), 76 P6.1/A1/OA0O (io), 77 P6.2/A2/OA0I1 (io), 78 AVSS (power) "Analog supply voltage, negative terminal. Supplies SVS, brownout, oscillator, comparator_A, port 1,and LCD resistive divider circuitry.", 79 DVSS1 (power) "Digital supply voltage, negative terminal", 80 AVCC (power) "Analog supply voltage, positive terminal. Supplies SVS, brownout, oscillator, comparator_A, port 1,and LCD resistive divider circuitry;must not power up prior toDVCC1/DVCC2."

## MSP430FG438IPNR
designator U?
8 MHz Mixed Signal Microcontroller with 48 KB Flash, 2048 B SRAM and 48 GPIOs, -40 to 85 degC, 80-pin QFP (PN), Green (RoHS & no Sb/Br); Manufacturer: Texas Instruments; PartNumber: MSP430FG438IPNR; ADC: 12-bit SAR; Brown Out Reset: Yes; DAC: 2; DMA: 3; Flash(KB): 48; Frequency(MHz): 8; LCD Segments: 128; SRAM(B): 2048; SubFamily: 4 Series with LCD; USART: 1; DatasheetVersion: SLAS380C; PackageReference: PN80; PackageDescription: 80-Pin Plastic Quad Flat Pack, Body 12 x 12 mm, Pitch 0.5 mm; Supplier 1: Digi-Key; Supplier Part Number 1: 296-17012-ND; Supplier 2: Newark; Supplier Part Number 2: 10J9446; Supplier 3: Mouser; Supplier Part Number 3: 595-430FG438IPN; Comparators: Yes; Eco-Plan: Green (RoHS & no Sb/Br); GPIO: 48; SVS: Yes; Temp Sensor: Yes; Timers - 16-bit: 2; Watchdog: Yes; Mounting Technology: Surface Mount; Code_JEDEC: MS-018; ComponentLink1Description: Manufacturer URL; ComponentLink1URL: http://www.ti.com/; ComponentLink2Description: Datasheet; ComponentLink2URL: http://www.ti.com/general/docs/lit/getliterature.tsp?genericPartNumber=MSP430FG438&fileType=pdf; ComponentLink3Description: Package Specification; ComponentLink3URL: http://www.ti.com/lit/ml/mtqf010a/mtqf010a.pdf
footprint TI-PN80_N (QFP, 80-Leads, Body 12x12mm, Pitch 0.5mm, IPC Medium Density)
pins: 1 DVCC1 (power) "Digital supply voltage, positive terminal.", 2 P6.3/A3/OA1I1/OA1O (io), 3 P6.4/A4/OA1I0 (io), 4 P6.5/A5/OA2I1/OA2O (io), 5 P6.6/A6/DAC0/OA2I0 (io), 6 P6.7/A7/DAC1/SVSIN (io), 7 VREF+ (out) "Positive output terminal of the reference voltage in the ADC", 8 XIN "Input terminal of crystal oscillator XT1", 9 XOUT "Output terminal of crystal oscillator XT1", 10 VEREF+/DAC0 (io), 11 VREF-/VEREF-, 12 P5.1/S0/A12/DAC1 (io), 13 P5.0/S1/A13 (io), 14 P4.7/S2/A14 (io), 15 P4.6/S3/A15 (io), 16 P4.5/S4 (io), 17 P4.4/S5 (io), 18 P4.3/S6 (io), 19 P4.2/S7 (io), 20 P4.1/S8 (io), 21 P4.0/S9 (io), 22 S10 (out) "LCD segment output 10", 23 S11 (out) "LCD segment output 11", 24 S12 (out) "LCD segment output 12", 25 S13 (out) "LCD segment output 13", 26 S14 (out) "LCD segment output 14", 27 S15 (out) "LCD segment output 15", 28 S16 (out) "LCD segment output 16", 29 S17 (out) "LCD segment output 17", 30 P2.7/ADC12CLK/S18 (io), 31 P2.6/CAOUT/S19 (io), 32 S20 (out) "LCD segment output 20", 33 S21 (out) "LCD segment output 21", 34 S22 (out) "LCD segment output 22", 35 S23 (out) "LCD segment output 23", 36 P3.7/S24 (io), 37 P3.6/S25/DMAE0 (io), 38 P3.5/S26 (io), 39 P3.4/S27 (io), 40 P3.3/UCLK0/S28 (io), 41 P3.2/SOMI0/S29 (io), 42 P3.1/SIMO0/S30 (io), 43 P3.0/STE0/S31 (io), 44 COM0 (out) "Common output, COM0-3 are used for LCD backplanes.", 45 P5.2/COM1 (io), 46 P5.3/COM2 (io), 47 P5.4/COM3 (io), 48 R03 (in) "Input port of fourth positive (lowest) analog LCD level (V5)", 49 P5.5/R13 (io), 50 P5.6/R23 (io), 51 P5.7/R33 (io), 52 DVCC2 (power) "Digital supply voltage, positive terminal.", 53 DVSS2 (power) "Digital supply voltage, negative terminal.", 54 P2.5/URXD0 (io), 55 P2.4/UTXD0 (io), 56 P2.3/TB2 (io), 57 P2.2/TB1 (io), 58 P2.1/TB0 (io), 59 P2.0/TA2 (io), 60 P1.7/CA13 (io), 61 P1.6/CA0 (io), 62 P1.5/TACLK/ACLK (io), 63 P1.4/TBCLK/SMCLK (io), 64 P1.3/TBOUTH/SVSOUT (io), 65 P1.2/TA1 (io), 66 P1.1/TA0/MCLK (io), 67 P1.0/TA0 (io), 68 XT2OUT "Output terminal of crystal oscillator XT2", 69 XT2IN "Input port for crystal oscillator XT2. Only standard crystals can be connected.", 70 TDO/TDI (io), 71 TDI/TCLK (in), 72 TMS (in) "Test mode select. TMS is used as an input port for device programming and test.", 73 TCK (in) "Test clock. TCK is the clock input port for device programming and test.", 74 ~{RST}/NMI (in), 75 P6.0/A0/OA0I0 (io), 76 P6.1/A1/OA0O (io), 77 P6.2/A2/OA0I1 (io), 78 AVSS (power) "Analog supply voltage, negative terminal. Supplies SVS, brownout, oscillator, comparator_A, port 1,and LCD resistive divider circuitry.", 79 DVSS1 (power) "Digital supply voltage, negative terminal", 80 AVCC (power) "Analog supply voltage, positive terminal. Supplies SVS, brownout, oscillator, comparator_A, port 1,and LCD resistive divider circuitry;must not power up prior toDVCC1/DVCC2."

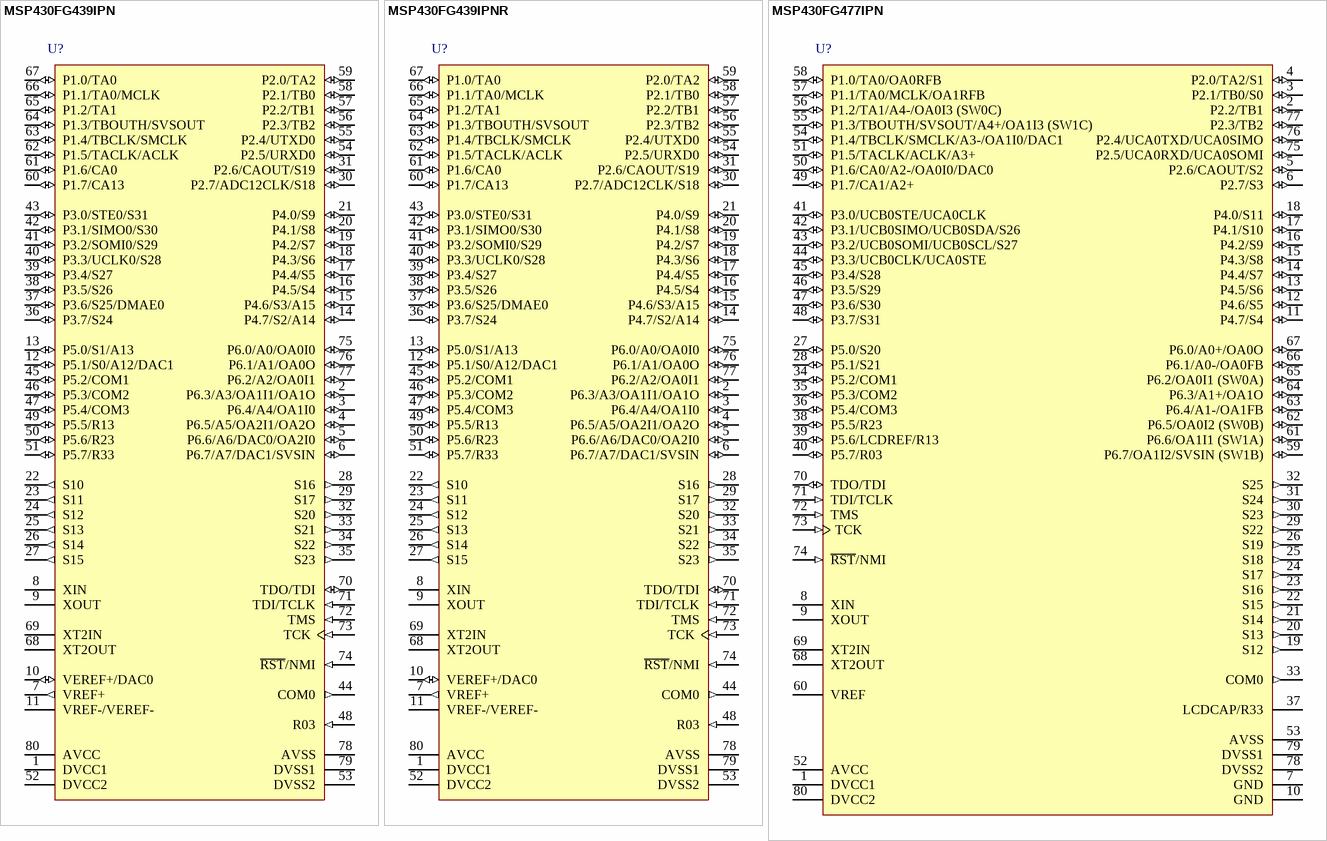
[diagram p187: symbols MSP430FG439IPN to MSP430FG477IPN]

## MSP430FG439IPN
designator U?
8 MHz Mixed Signal Microcontroller with 60 KB Flash, 2048 B SRAM and 48 GPIOs, -40 to 85 degC, 80-pin QFP (PN), Green (RoHS & no Sb/Br); Manufacturer: Texas Instruments; PartNumber: MSP430FG439IPN; ADC: 12-bit SAR; Brown Out Reset: Yes; DAC: 2; DMA: 3; Flash(KB): 60; Frequency(MHz): 8; GPIO: 48; LCD Segments: 128; SRAM(B): 2048; SubFamily: 4 Series with LCD; USART: 1; DatasheetVersion: SLAS380C; PackageReference: PN80; PackageDescription: 80-Pin Plastic Quad Flat Pack, Body 12 x 12 mm, Pitch 0.5 mm; Supplier 1: Digi-Key; Supplier Part Number 1: MSP430FG438IPNR-ND; Supplier 2: Newark; Supplier Part Number 2: 10J9447; Supplier 3: Mouser; Supplier Part Number 3: 595-430FG438IPNR; Comparators: Yes; Eco-Plan: Green (RoHS & no Sb/Br); SVS: Yes; Temp Sensor: Yes; Timers - 16-bit: 2; Watchdog: Yes; Mounting Technology: Surface Mount; Code_JEDEC: MS-018; ComponentLink1Description: Manufacturer URL; ComponentLink1URL: http://www.ti.com/; ComponentLink2Description: Datasheet; ComponentLink2URL: http://www.ti.com/general/docs/lit/getliterature.tsp?genericPartNumber=MSP430FG439&fileType=pdf; ComponentLink3Description: Package Specification; ComponentLink3URL: http://www.ti.com/lit/ml/mtqf010a/mtqf010a.pdf
footprint TI-PN80_N (QFP, 80-Leads, Body 12x12mm, Pitch 0.5mm, IPC Medium Density)
pins: 1 DVCC1 (power) "Digital supply voltage, positive terminal.", 2 P6.3/A3/OA1I1/OA1O (io), 3 P6.4/A4/OA1I0 (io), 4 P6.5/A5/OA2I1/OA2O (io), 5 P6.6/A6/DAC0/OA2I0 (io), 6 P6.7/A7/DAC1/SVSIN (io), 7 VREF+ (out) "Positive output terminal of the reference voltage in the ADC", 8 XIN "Input terminal of crystal oscillator XT1", 9 XOUT "Output terminal of crystal oscillator XT1", 10 VEREF+/DAC0 (io), 11 VREF-/VEREF-, 12 P5.1/S0/A12/DAC1 (io), 13 P5.0/S1/A13 (io), 14 P4.7/S2/A14 (io), 15 P4.6/S3/A15 (io), 16 P4.5/S4 (io), 17 P4.4/S5 (io), 18 P4.3/S6 (io), 19 P4.2/S7 (io), 20 P4.1/S8 (io), 21 P4.0/S9 (io), 22 S10 (out) "LCD segment output 10", 23 S11 (out) "LCD segment output 11", 24 S12 (out) "LCD segment output 12", 25 S13 (out) "LCD segment output 13", 26 S14 (out) "LCD segment output 14", 27 S15 (out) "LCD segment output 15", 28 S16 (out) "LCD segment output 16", 29 S17 (out) "LCD segment output 17", 30 P2.7/ADC12CLK/S18 (io), 31 P2.6/CAOUT/S19 (io), 32 S20 (out) "LCD segment output 20", 33 S21 (out) "LCD segment output 21", 34 S22 (out) "LCD segment output 22", 35 S23 (out) "LCD segment output 23", 36 P3.7/S24 (io), 37 P3.6/S25/DMAE0 (io), 38 P3.5/S26 (io), 39 P3.4/S27 (io), 40 P3.3/UCLK0/S28 (io), 41 P3.2/SOMI0/S29 (io), 42 P3.1/SIMO0/S30 (io), 43 P3.0/STE0/S31 (io), 44 COM0 (out) "Common output, COM0-3 are used for LCD backplanes.", 45 P5.2/COM1 (io), 46 P5.3/COM2 (io), 47 P5.4/COM3 (io), 48 R03 (in) "Input port of fourth positive (lowest) analog LCD level (V5)", 49 P5.5/R13 (io), 50 P5.6/R23 (io), 51 P5.7/R33 (io), 52 DVCC2 (power) "Digital supply voltage, positive terminal.", 53 DVSS2 (power) "Digital supply voltage, negative terminal.", 54 P2.5/URXD0 (io), 55 P2.4/UTXD0 (io), 56 P2.3/TB2 (io), 57 P2.2/TB1 (io), 58 P2.1/TB0 (io), 59 P2.0/TA2 (io), 60 P1.7/CA13 (io), 61 P1.6/CA0 (io), 62 P1.5/TACLK/ACLK (io), 63 P1.4/TBCLK/SMCLK (io), 64 P1.3/TBOUTH/SVSOUT (io), 65 P1.2/TA1 (io), 66 P1.1/TA0/MCLK (io), 67 P1.0/TA0 (io), 68 XT2OUT "Output terminal of crystal oscillator XT2", 69 XT2IN "Input port for crystal oscillator XT2. Only standard crystals can be connected.", 70 TDO/TDI (io), 71 TDI/TCLK (in), 72 TMS (in) "Test mode select. TMS is used as an input port for device programming and test.", 73 TCK (in) "Test clock. TCK is the clock input port for device programming and test.", 74 ~{RST}/NMI (in), 75 P6.0/A0/OA0I0 (io), 76 P6.1/A1/OA0O (io), 77 P6.2/A2/OA0I1 (io), 78 AVSS (power) "Analog supply voltage, negative terminal. Supplies SVS, brownout, oscillator, comparator_A, port 1,and LCD resistive divider circuitry.", 79 DVSS1 (power) "Digital supply voltage, negative terminal", 80 AVCC (power) "Analog supply voltage, positive terminal. Supplies SVS, brownout, oscillator, comparator_A, port 1,and LCD resistive divider circuitry;must not power up prior toDVCC1/DVCC2."